# Altium footprint library Resistors_GP.PcbLib: 194 footprints (part 1 of 13)
Each footprint in its own frame and in the unit in brackets; x right, y up, seen from the top. Pads: shape width x height; smd on the part's side, far side on the other; paste and mask are expansions set on the pad; w line width, h text height; cw(c..) or ccw(c..) is an arc to the next point about the centre after c.
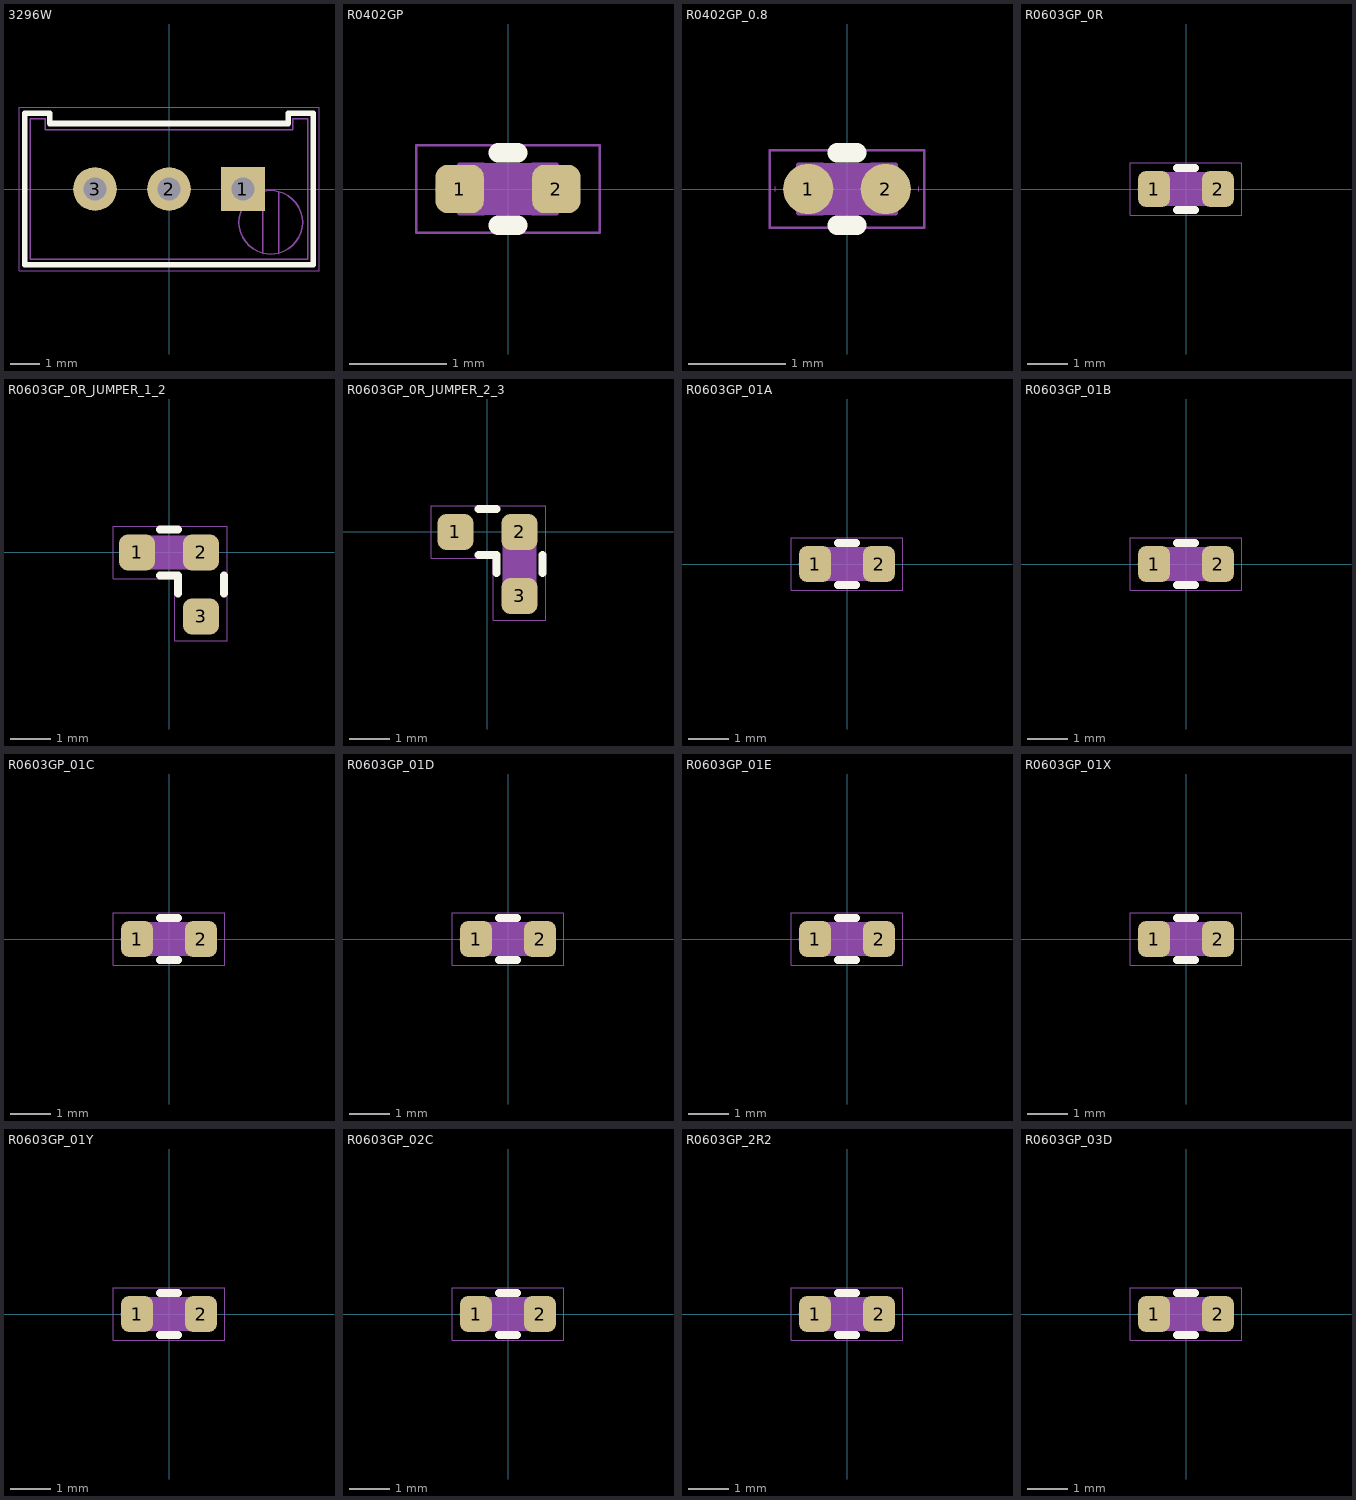
[diagram p0: the footprints below, top view; thin cyan lines are the x and y axes]

## 3296W [mm] "3/8 Trimming Potentiometer"
height 10.3
pads (3):
  rect 1.5x1.5 hole 0.8: 1(2.54,0)
  round 1.5 hole 0.8: 2(0,0) 3(-2.54,0)
Top Overlay:
  lines w0.2: -4.097,2.584 -4.097,2.25 4.097,2.25 4.097,2.584 ; -4.097,2.6 -4.95,2.6 -4.95,-2.6 4.95,-2.6 4.95,2.6 4.097,2.6
Top Courtyard:
  lines w0.025: -5.15,-2.8 5.15,-2.8 5.15,2.8 -5.15,2.8 -5.15,-2.8
Top Assembly:
  lines w0.05: 3.213,-2.199 cw(c3.492,-1.143) 3.213,-0.087 ; 3.213,-2.199 ccw(c3.492,-1.143) 3.492,-2.235 ccw(c3.492,-1.143) 3.772,-2.199 ; 3.213,-2.199 3.213,-0.087 ; 3.213,-0.087 cw(c3.492,-1.143) 3.492,-0.051 cw(c3.492,-1.143) 3.772,-0.087 ; 3.772,-2.199 ccw(c3.492,-1.143) 3.772,-0.087 ; 3.772,-2.199 3.772,-0.087 ; -4.763,-2.413 -4.763,2.413 -4.255,2.413 -4.255,2.032 4.255,2.032 4.255,2.413 4.763,2.413 4.763,-2.413 -4.763,-2.413
  text ".Designator" at -6.763,-0.679 h3
3D body "3296W_SHORTPINS.STEP": height 11.52, standoff -2.43, extent -4.763,-2.413 4.762,2.413

## R0402GP [mm] "SMD040210X05MM"
height 0.3
pads (2):
  rrect50% 0.5x0.5 smd mask+0.05: 1(-0.5,0) 2(0.5,0)
Top Overlay:
  lines w0.2: -0.1,-0.375 0.1,-0.375 ; -0.1,0.375 0.1,0.375
Top Courtyard:
  lines w0.025: -0.95,-0.45 -0.95,0.45 0.95,0.45 0.95,-0.45 -0.95,-0.45
Top Assembly:
  lines w0.01: -0.74,-0.025 -0.74,0.025 ; 0.74,-0.025 0.74,0.025
  lines w0.05: -0.298,-0.245 0.298,-0.245 ; -0.298,0.245 0.298,0.245 ; -0.2,-0.245 -0.2,0.245 ; -0.15,-0.245 -0.15,0.245 ; -0.1,-0.245 -0.1,0.245 ; -0.05,-0.245 -0.05,0.245 ; 0,-0.245 0,0.245 ; 0.05,-0.245 0.05,0.245 ; 0.1,-0.245 0.1,0.245 ; 0.15,-0.245 0.15,0.245 ; 0.2,-0.245 0.2,0.245 ; -0.3,-0.25 ccw(c-0.9,0) -0.3,0.25 ; -0.3,-0.25 -0.25,-0.25 -0.25,-0.245 -0.25,0.245 -0.25,0.25 -0.3,0.25 ; -0.3,-0.25 -0.5,-0.25 -0.5,0.25 -0.3,0.25 ; 0.3,-0.25 cw(c0.9,0) 0.3,0.25 ; 0.3,-0.25 0.25,-0.25 0.25,-0.245 0.25,0.245 0.25,0.25 0.3,0.25 ; 0.3,-0.25 0.5,-0.25 0.5,0.25 0.3,0.25
  text ".Designator" at -1.801,0.519 h0.8
3D body "R0402_BLACK.x_t": height 0.3, standoff 0, extent -0.5,-0.25 0.5,0.25

## R0402GP_0.8 [mm] "SMD040210X05MM for BGA with 0.8mm pitch"
height 0.3
pads (2):
  round 0.52 smd paste-0.025 mask+0.04: 1(-0.4,0) 2(0.4,0)
Top Overlay:
  lines w0.2: -0.1,-0.375 0.1,-0.375 ; -0.1,0.375 0.1,0.375
Top Courtyard:
  lines w0.025: -0.8,-0.4 -0.8,0.4 0.8,0.4 0.8,-0.4 -0.8,-0.4
Top Assembly:
  lines w0.01: -0.74,-0.025 -0.74,0.025 ; 0.74,-0.025 0.74,0.025
  lines w0.05: -0.298,-0.245 0.298,-0.245 ; -0.298,0.245 0.298,0.245 ; -0.2,-0.245 -0.2,0.245 ; -0.15,-0.245 -0.15,0.245 ; -0.1,-0.245 -0.1,0.245 ; -0.05,-0.245 -0.05,0.245 ; 0,-0.245 0,0.245 ; 0.05,-0.245 0.05,0.245 ; 0.1,-0.245 0.1,0.245 ; 0.15,-0.245 0.15,0.245 ; 0.2,-0.245 0.2,0.245 ; -0.3,-0.25 ccw(c-0.9,0) -0.3,0.25 ; -0.3,-0.25 -0.5,-0.25 -0.5,0.25 -0.3,0.25 ; -0.3,-0.25 -0.25,-0.25 -0.25,-0.245 -0.25,0.245 -0.25,0.25 -0.3,0.25 ; 0.3,-0.25 cw(c0.9,0) 0.3,0.25 ; 0.3,-0.25 0.5,-0.25 0.5,0.25 0.3,0.25 ; 0.3,-0.25 0.25,-0.25 0.25,-0.245 0.25,0.245 0.25,0.25 0.3,0.25
  text ".Designator" at -1.801,0.519 h0.8
3D body "R0402_BLACK.x_t": height 0.3, standoff 0, extent -0.5,-0.25 0.5,0.25

## R0603GP_0R [mm] "SMD060316X08MM"
height 0.45
pads (2):
  rrect50% 0.8x0.9 smd mask+0.05: 1(-0.8,0) 2(0.8,0)
Top Overlay:
  lines w0.2: -0.225,-0.525 0.225,-0.525 ; -0.225,0.525 0.225,0.525
Top Courtyard:
  lines w0.025: -1.4,-0.65 1.4,-0.65 1.4,0.65 -1.4,0.65 -1.4,-0.65
Top Assembly:
  lines w0.01: -1.19,-0.025 -1.19,0.025 ; 1.19,-0.025 1.19,0.025
  lines w0.05: -0.549,-0.395 0.549,-0.395 ; -0.549,0.395 0.549,0.395 ; -0.45,-0.395 -0.45,0.395 ; -0.4,-0.395 -0.4,0.395 ; -0.35,-0.395 -0.35,0.395 ; -0.3,-0.395 -0.3,0.395 ; -0.25,-0.395 -0.25,0.395 ; -0.2,-0.395 -0.2,0.395 ; -0.15,-0.395 -0.15,0.395 ; -0.1,-0.395 -0.1,0.395 ; -0.05,-0.395 -0.05,0.395 ; 0,-0.395 0,0.395 ; 0.05,-0.395 0.05,0.395 ; 0.1,-0.395 0.1,0.395 ; 0.15,-0.395 0.15,0.395 ; 0.2,-0.395 0.2,0.395 ; 0.25,-0.395 0.25,0.395 ; 0.3,-0.395 0.3,0.395 ; 0.35,-0.395 0.35,0.395 ; 0.4,-0.395 0.4,0.395 ; 0.45,-0.395 0.45,0.395 ; -0.55,-0.4 ccw(c-2.125,0) -0.55,0.4 ; -0.55,-0.4 -0.5,-0.4 -0.5,-0.395 -0.5,0.395 -0.5,0.4 -0.55,0.4 ; -0.55,-0.4 -0.8,-0.4 -0.8,0.4 -0.55,0.4 ; 0.55,-0.4 cw(c2.125,0) 0.55,0.4 ; 0.55,-0.4 0.5,-0.4 0.5,-0.395 0.5,0.395 0.5,0.4 0.55,0.4 ; 0.55,-0.4 0.8,-0.4 0.8,0.4 0.55,0.4
  text ".Designator" at -1.801,0.669 h0.8
3D body "R0603_BLACK_0R.x_t": height 0.45, standoff 0, extent -0.8,-0.4 0.8,0.4

## R0603GP_0R_JUMPER_1_2 [mm] "SMD060316X08MM"
height 0.45
pads (3):
  rrect50% 0.9x0.9 smd mask+0.05: 1(-0.8,0) 2(0.8,0) 3(0.8,-1.6)
Top Overlay:
  lines w0.2: -0.225,-0.575 0.225,-0.575 0.225,-1.025 ; -0.225,0.575 0.225,0.575 ; 1.375,-1.025 1.375,-0.575
Top Courtyard:
  lines w0.025: -1.4,-0.65 -1.4,0.65 1.45,0.65 1.45,-2.2 0.15,-2.2 0.15,-0.65 -1.4,-0.65
Top Assembly:
  lines w0.01: -1.19,-0.025 -1.19,0.025 ; 1.19,-0.025 1.19,0.025
  lines w0.05: -0.549,-0.395 0.549,-0.395 ; -0.549,0.395 0.549,0.395 ; -0.45,-0.395 -0.45,0.395 ; -0.4,-0.395 -0.4,0.395 ; -0.35,-0.395 -0.35,0.395 ; -0.3,-0.395 -0.3,0.395 ; -0.25,-0.395 -0.25,0.395 ; -0.2,-0.395 -0.2,0.395 ; -0.15,-0.395 -0.15,0.395 ; -0.1,-0.395 -0.1,0.395 ; -0.05,-0.395 -0.05,0.395 ; 0,-0.395 0,0.395 ; 0.05,-0.395 0.05,0.395 ; 0.1,-0.395 0.1,0.395 ; 0.15,-0.395 0.15,0.395 ; 0.2,-0.395 0.2,0.395 ; 0.25,-0.395 0.25,0.395 ; 0.3,-0.395 0.3,0.395 ; 0.35,-0.395 0.35,0.395 ; 0.4,-0.395 0.4,0.395 ; 0.45,-0.395 0.45,0.395 ; -0.55,-0.4 ccw(c-2.125,0) -0.55,0.4 ; -0.55,-0.4 -0.8,-0.4 -0.8,0.4 -0.55,0.4 ; -0.55,-0.4 -0.5,-0.4 -0.5,-0.395 -0.5,0.395 -0.5,0.4 -0.55,0.4 ; 0.55,-0.4 cw(c2.125,0) 0.55,0.4 ; 0.55,-0.4 0.8,-0.4 0.8,0.4 0.55,0.4 ; 0.55,-0.4 0.5,-0.4 0.5,-0.395 0.5,0.395 0.5,0.4 0.55,0.4
  text ".Designator" at -1.801,0.669 h0.8
3D body "R0603_BLACK_0R.x_t": height 0.45, standoff 0, extent -0.8,-0.4 0.8,0.4

## R0603GP_0R_JUMPER_2_3 [mm] "SMD060316X08MM"
height 0.45
pads (3):
  rrect50% 0.9x0.9 smd mask+0.05: 1(-0.8,0) 2(0.8,0) 3(0.8,-1.6)
Top Overlay:
  lines w0.2: -0.225,-0.575 0.225,-0.575 0.225,-1.025 ; -0.225,0.575 0.225,0.575 ; 1.375,-1.025 1.375,-0.575
Top Courtyard:
  lines w0.025: -1.4,-0.65 -1.4,0.65 1.45,0.65 1.45,-2.2 0.15,-2.2 0.15,-0.65 -1.4,-0.65
Top Assembly:
  lines w0.01: 0.775,-1.99 0.825,-1.99 ; 0.775,0.39 0.825,0.39
  lines w0.05: 0.405,-1.349 0.405,-0.251 ; 0.405,-1.25 1.195,-1.25 ; 0.405,-1.2 1.195,-1.2 ; 0.405,-1.15 1.195,-1.15 ; 0.405,-1.1 1.195,-1.1 ; 0.405,-1.05 1.195,-1.05 ; 0.405,-1 1.195,-1 ; 0.405,-0.95 1.195,-0.95 ; 0.405,-0.9 1.195,-0.9 ; 0.405,-0.85 1.195,-0.85 ; 0.405,-0.8 1.195,-0.8 ; 0.405,-0.75 1.195,-0.75 ; 0.405,-0.7 1.195,-0.7 ; 0.405,-0.65 1.195,-0.65 ; 0.405,-0.6 1.195,-0.6 ; 0.405,-0.55 1.195,-0.55 ; 0.405,-0.5 1.195,-0.5 ; 0.405,-0.45 1.195,-0.45 ; 0.405,-0.4 1.195,-0.4 ; 0.405,-0.35 1.195,-0.35 ; 1.195,-1.349 1.195,-0.251 ; 0.4,-1.35 cw(c0.8,-2.925) 1.2,-1.35 ; 0.4,-1.35 0.4,-1.6 1.2,-1.6 1.2,-1.35 ; 0.4,-1.35 0.4,-1.3 0.405,-1.3 1.195,-1.3 1.2,-1.3 1.2,-1.35 ; 0.4,-0.25 ccw(c0.8,1.325) 1.2,-0.25 ; 0.4,-0.25 0.4,0 1.2,0 1.2,-0.25 ; 0.4,-0.25 0.4,-0.3 0.405,-0.3 1.195,-0.3 1.2,-0.3 1.2,-0.25
  text ".Designator" at -1.801,0.669 h0.8
3D body "R0603_BLACK_0R.x_t": height 0.45, standoff 0, extent 0.4,-1.6 1.2,0

## R0603GP_01A [mm] "SMD060316X08MM"
height 0.45
pads (2):
  rrect50% 0.8x0.9 smd mask+0.05: 1(-0.8,0) 2(0.8,0)
Top Overlay:
  lines w0.2: -0.225,-0.525 0.225,-0.525 ; -0.225,0.525 0.225,0.525
Top Courtyard:
  lines w0.025: -1.4,-0.65 -1.4,0.65 1.4,0.65 1.4,-0.65 -1.4,-0.65
Top Assembly:
  lines w0.01: -1.19,-0.025 -1.19,0.025 ; 1.19,-0.025 1.19,0.025
  lines w0.05: -0.549,-0.395 0.549,-0.395 ; -0.549,0.395 0.549,0.395 ; -0.45,-0.395 -0.45,0.395 ; -0.4,-0.395 -0.4,0.395 ; -0.35,-0.395 -0.35,0.395 ; -0.3,-0.395 -0.3,0.395 ; -0.25,-0.395 -0.25,0.395 ; -0.2,-0.395 -0.2,0.395 ; -0.15,-0.395 -0.15,0.395 ; -0.1,-0.395 -0.1,0.395 ; -0.05,-0.395 -0.05,0.395 ; 0,-0.395 0,0.395 ; 0.05,-0.395 0.05,0.395 ; 0.1,-0.395 0.1,0.395 ; 0.15,-0.395 0.15,0.395 ; 0.2,-0.395 0.2,0.395 ; 0.25,-0.395 0.25,0.395 ; 0.3,-0.395 0.3,0.395 ; 0.35,-0.395 0.35,0.395 ; 0.4,-0.395 0.4,0.395 ; 0.45,-0.395 0.45,0.395 ; -0.55,-0.4 ccw(c-2.125,0) -0.55,0.4 ; -0.55,-0.4 -0.5,-0.4 -0.5,-0.395 -0.5,0.395 -0.5,0.4 -0.55,0.4 ; -0.55,-0.4 -0.8,-0.4 -0.8,0.4 -0.55,0.4 ; 0.55,-0.4 cw(c2.125,0) 0.55,0.4 ; 0.55,-0.4 0.5,-0.4 0.5,-0.395 0.5,0.395 0.5,0.4 0.55,0.4 ; 0.55,-0.4 0.8,-0.4 0.8,0.4 0.55,0.4
  text ".Designator" at -1.801,0.669 h0.8
3D body "R0603_BLACK_01A.x_t": height 0.45, standoff 0, extent -0.8,-0.4 0.8,0.4

## R0603GP_01B [mm] "SMD060316X08MM"
height 0.45
pads (2):
  rrect50% 0.8x0.9 smd mask+0.05: 1(-0.8,0) 2(0.8,0)
Top Overlay:
  lines w0.2: -0.225,-0.525 0.225,-0.525 ; -0.225,0.525 0.225,0.525
Top Courtyard:
  lines w0.025: -1.4,-0.65 1.4,-0.65 1.4,0.65 -1.4,0.65 -1.4,-0.65
Top Assembly:
  lines w0.01: -1.19,-0.025 -1.19,0.025 ; 1.19,-0.025 1.19,0.025
  lines w0.05: -0.549,-0.395 0.549,-0.395 ; -0.549,0.395 0.549,0.395 ; -0.45,-0.395 -0.45,0.395 ; -0.4,-0.395 -0.4,0.395 ; -0.35,-0.395 -0.35,0.395 ; -0.3,-0.395 -0.3,0.395 ; -0.25,-0.395 -0.25,0.395 ; -0.2,-0.395 -0.2,0.395 ; -0.15,-0.395 -0.15,0.395 ; -0.1,-0.395 -0.1,0.395 ; -0.05,-0.395 -0.05,0.395 ; 0,-0.395 0,0.395 ; 0.05,-0.395 0.05,0.395 ; 0.1,-0.395 0.1,0.395 ; 0.15,-0.395 0.15,0.395 ; 0.2,-0.395 0.2,0.395 ; 0.25,-0.395 0.25,0.395 ; 0.3,-0.395 0.3,0.395 ; 0.35,-0.395 0.35,0.395 ; 0.4,-0.395 0.4,0.395 ; 0.45,-0.395 0.45,0.395 ; -0.55,-0.4 ccw(c-2.125,0) -0.55,0.4 ; -0.55,-0.4 -0.8,-0.4 -0.8,0.4 -0.55,0.4 ; -0.55,-0.4 -0.5,-0.4 -0.5,-0.395 -0.5,0.395 -0.5,0.4 -0.55,0.4 ; 0.55,-0.4 cw(c2.125,0) 0.55,0.4 ; 0.55,-0.4 0.8,-0.4 0.8,0.4 0.55,0.4 ; 0.55,-0.4 0.5,-0.4 0.5,-0.395 0.5,0.395 0.5,0.4 0.55,0.4
  text ".Designator" at -1.801,0.669 h0.8
3D body "R0603_BLACK_01B.x_t": height 0.45, standoff 0, extent -0.8,-0.4 0.8,0.4

## R0603GP_01C [mm] "SMD060316X08MM"
height 0.45
pads (2):
  rrect50% 0.8x0.9 smd mask+0.05: 1(-0.8,0) 2(0.8,0)
Top Overlay:
  lines w0.2: -0.225,-0.525 0.225,-0.525 ; -0.225,0.525 0.225,0.525
Top Courtyard:
  lines w0.025: -1.4,-0.65 -1.4,0.65 1.4,0.65 1.4,-0.65 -1.4,-0.65
Top Assembly:
  lines w0.01: -1.19,-0.025 -1.19,0.025 ; 1.19,-0.025 1.19,0.025
  lines w0.05: -0.549,-0.395 0.549,-0.395 ; -0.549,0.395 0.549,0.395 ; -0.45,-0.395 -0.45,0.395 ; -0.4,-0.395 -0.4,0.395 ; -0.35,-0.395 -0.35,0.395 ; -0.3,-0.395 -0.3,0.395 ; -0.25,-0.395 -0.25,0.395 ; -0.2,-0.395 -0.2,0.395 ; -0.15,-0.395 -0.15,0.395 ; -0.1,-0.395 -0.1,0.395 ; -0.05,-0.395 -0.05,0.395 ; 0,-0.395 0,0.395 ; 0.05,-0.395 0.05,0.395 ; 0.1,-0.395 0.1,0.395 ; 0.15,-0.395 0.15,0.395 ; 0.2,-0.395 0.2,0.395 ; 0.25,-0.395 0.25,0.395 ; 0.3,-0.395 0.3,0.395 ; 0.35,-0.395 0.35,0.395 ; 0.4,-0.395 0.4,0.395 ; 0.45,-0.395 0.45,0.395 ; -0.55,-0.4 ccw(c-2.125,0) -0.55,0.4 ; -0.55,-0.4 -0.8,-0.4 -0.8,0.4 -0.55,0.4 ; -0.55,-0.4 -0.5,-0.4 -0.5,-0.395 -0.5,0.395 -0.5,0.4 -0.55,0.4 ; 0.55,-0.4 cw(c2.125,0) 0.55,0.4 ; 0.55,-0.4 0.8,-0.4 0.8,0.4 0.55,0.4 ; 0.55,-0.4 0.5,-0.4 0.5,-0.395 0.5,0.395 0.5,0.4 0.55,0.4
  text ".Designator" at -1.801,0.669 h0.8
3D body "R0603_BLACK_01C.x_t": height 0.45, standoff 0, extent -0.8,-0.4 0.8,0.4

## R0603GP_01D [mm] "SMD060316X08MM"
height 0.45
pads (2):
  rrect50% 0.8x0.9 smd mask+0.05: 1(-0.8,0) 2(0.8,0)
Top Overlay:
  lines w0.2: -0.225,-0.525 0.225,-0.525 ; -0.225,0.525 0.225,0.525
Top Courtyard:
  lines w0.025: -1.4,-0.65 -1.4,0.65 1.4,0.65 1.4,-0.65 -1.4,-0.65
Top Assembly:
  lines w0.01: -1.19,-0.025 -1.19,0.025 ; 1.19,-0.025 1.19,0.025
  lines w0.05: -0.549,-0.395 0.549,-0.395 ; -0.549,0.395 0.549,0.395 ; -0.45,-0.395 -0.45,0.395 ; -0.4,-0.395 -0.4,0.395 ; -0.35,-0.395 -0.35,0.395 ; -0.3,-0.395 -0.3,0.395 ; -0.25,-0.395 -0.25,0.395 ; -0.2,-0.395 -0.2,0.395 ; -0.15,-0.395 -0.15,0.395 ; -0.1,-0.395 -0.1,0.395 ; -0.05,-0.395 -0.05,0.395 ; 0,-0.395 0,0.395 ; 0.05,-0.395 0.05,0.395 ; 0.1,-0.395 0.1,0.395 ; 0.15,-0.395 0.15,0.395 ; 0.2,-0.395 0.2,0.395 ; 0.25,-0.395 0.25,0.395 ; 0.3,-0.395 0.3,0.395 ; 0.35,-0.395 0.35,0.395 ; 0.4,-0.395 0.4,0.395 ; 0.45,-0.395 0.45,0.395 ; -0.55,-0.4 ccw(c-2.125,0) -0.55,0.4 ; -0.55,-0.4 -0.5,-0.4 -0.5,-0.395 -0.5,0.395 -0.5,0.4 -0.55,0.4 ; -0.55,-0.4 -0.8,-0.4 -0.8,0.4 -0.55,0.4 ; 0.55,-0.4 cw(c2.125,0) 0.55,0.4 ; 0.55,-0.4 0.5,-0.4 0.5,-0.395 0.5,0.395 0.5,0.4 0.55,0.4 ; 0.55,-0.4 0.8,-0.4 0.8,0.4 0.55,0.4
  text ".Designator" at -1.801,0.669 h0.8
3D body "R0603_BLACK_01D.x_t": height 0.45, standoff 0, extent -0.8,-0.4 0.8,0.4

## R0603GP_01E [mm] "SMD060316X08MM"
height 0.45
pads (2):
  rrect50% 0.8x0.9 smd mask+0.05: 1(-0.8,0) 2(0.8,0)
Top Overlay:
  lines w0.2: -0.225,-0.525 0.225,-0.525 ; -0.225,0.525 0.225,0.525
Top Courtyard:
  lines w0.025: -1.4,-0.65 1.4,-0.65 1.4,0.65 -1.4,0.65 -1.4,-0.65
Top Assembly:
  lines w0.01: -1.19,-0.025 -1.19,0.025 ; 1.19,-0.025 1.19,0.025
  lines w0.05: -0.549,-0.395 0.549,-0.395 ; -0.549,0.395 0.549,0.395 ; -0.45,-0.395 -0.45,0.395 ; -0.4,-0.395 -0.4,0.395 ; -0.35,-0.395 -0.35,0.395 ; -0.3,-0.395 -0.3,0.395 ; -0.25,-0.395 -0.25,0.395 ; -0.2,-0.395 -0.2,0.395 ; -0.15,-0.395 -0.15,0.395 ; -0.1,-0.395 -0.1,0.395 ; -0.05,-0.395 -0.05,0.395 ; 0,-0.395 0,0.395 ; 0.05,-0.395 0.05,0.395 ; 0.1,-0.395 0.1,0.395 ; 0.15,-0.395 0.15,0.395 ; 0.2,-0.395 0.2,0.395 ; 0.25,-0.395 0.25,0.395 ; 0.3,-0.395 0.3,0.395 ; 0.35,-0.395 0.35,0.395 ; 0.4,-0.395 0.4,0.395 ; 0.45,-0.395 0.45,0.395 ; -0.55,-0.4 ccw(c-2.125,0) -0.55,0.4 ; -0.55,-0.4 -0.8,-0.4 -0.8,0.4 -0.55,0.4 ; -0.55,-0.4 -0.5,-0.4 -0.5,-0.395 -0.5,0.395 -0.5,0.4 -0.55,0.4 ; 0.55,-0.4 cw(c2.125,0) 0.55,0.4 ; 0.55,-0.4 0.8,-0.4 0.8,0.4 0.55,0.4 ; 0.55,-0.4 0.5,-0.4 0.5,-0.395 0.5,0.395 0.5,0.4 0.55,0.4
  text ".Designator" at -1.801,0.669 h0.8
3D body "R0603_BLACK_01E.x_t": height 0.45, standoff 0, extent -0.8,-0.4 0.8,0.4

## R0603GP_01X [mm] "SMD060316X08MM"
height 0.45
pads (2):
  rrect50% 0.8x0.9 smd mask+0.05: 1(-0.8,0) 2(0.8,0)
Top Overlay:
  lines w0.2: -0.225,-0.525 0.225,-0.525 ; -0.225,0.525 0.225,0.525
Top Courtyard:
  lines w0.025: -1.4,-0.65 -1.4,0.65 1.4,0.65 1.4,-0.65 -1.4,-0.65
Top Assembly:
  lines w0.01: -1.19,-0.025 -1.19,0.025 ; 1.19,-0.025 1.19,0.025
  lines w0.05: -0.549,-0.395 0.549,-0.395 ; -0.549,0.395 0.549,0.395 ; -0.45,-0.395 -0.45,0.395 ; -0.4,-0.395 -0.4,0.395 ; -0.35,-0.395 -0.35,0.395 ; -0.3,-0.395 -0.3,0.395 ; -0.25,-0.395 -0.25,0.395 ; -0.2,-0.395 -0.2,0.395 ; -0.15,-0.395 -0.15,0.395 ; -0.1,-0.395 -0.1,0.395 ; -0.05,-0.395 -0.05,0.395 ; 0,-0.395 0,0.395 ; 0.05,-0.395 0.05,0.395 ; 0.1,-0.395 0.1,0.395 ; 0.15,-0.395 0.15,0.395 ; 0.2,-0.395 0.2,0.395 ; 0.25,-0.395 0.25,0.395 ; 0.3,-0.395 0.3,0.395 ; 0.35,-0.395 0.35,0.395 ; 0.4,-0.395 0.4,0.395 ; 0.45,-0.395 0.45,0.395 ; -0.55,-0.4 ccw(c-2.125,0) -0.55,0.4 ; -0.55,-0.4 -0.5,-0.4 -0.5,-0.395 -0.5,0.395 -0.5,0.4 -0.55,0.4 ; -0.55,-0.4 -0.8,-0.4 -0.8,0.4 -0.55,0.4 ; 0.55,-0.4 cw(c2.125,0) 0.55,0.4 ; 0.55,-0.4 0.5,-0.4 0.5,-0.395 0.5,0.395 0.5,0.4 0.55,0.4 ; 0.55,-0.4 0.8,-0.4 0.8,0.4 0.55,0.4
  text ".Designator" at -1.801,0.669 h0.8
3D body "R0603_BLACK_01X.x_t": height 0.45, standoff 0, extent -0.8,-0.4 0.8,0.4

## R0603GP_01Y [mm] "SMD060316X08MM"
height 0.45
pads (2):
  rrect50% 0.8x0.9 smd mask+0.05: 1(-0.8,0) 2(0.8,0)
Top Overlay:
  lines w0.2: -0.225,-0.525 0.225,-0.525 ; -0.225,0.525 0.225,0.525
Top Courtyard:
  lines w0.025: -1.4,-0.65 -1.4,0.65 1.4,0.65 1.4,-0.65 -1.4,-0.65
Top Assembly:
  lines w0.01: -1.19,-0.025 -1.19,0.025 ; 1.19,-0.025 1.19,0.025
  lines w0.05: -0.549,-0.395 0.549,-0.395 ; -0.549,0.395 0.549,0.395 ; -0.45,-0.395 -0.45,0.395 ; -0.4,-0.395 -0.4,0.395 ; -0.35,-0.395 -0.35,0.395 ; -0.3,-0.395 -0.3,0.395 ; -0.25,-0.395 -0.25,0.395 ; -0.2,-0.395 -0.2,0.395 ; -0.15,-0.395 -0.15,0.395 ; -0.1,-0.395 -0.1,0.395 ; -0.05,-0.395 -0.05,0.395 ; 0,-0.395 0,0.395 ; 0.05,-0.395 0.05,0.395 ; 0.1,-0.395 0.1,0.395 ; 0.15,-0.395 0.15,0.395 ; 0.2,-0.395 0.2,0.395 ; 0.25,-0.395 0.25,0.395 ; 0.3,-0.395 0.3,0.395 ; 0.35,-0.395 0.35,0.395 ; 0.4,-0.395 0.4,0.395 ; 0.45,-0.395 0.45,0.395 ; -0.55,-0.4 ccw(c-2.125,0) -0.55,0.4 ; -0.55,-0.4 -0.8,-0.4 -0.8,0.4 -0.55,0.4 ; -0.55,-0.4 -0.5,-0.4 -0.5,-0.395 -0.5,0.395 -0.5,0.4 -0.55,0.4 ; 0.55,-0.4 cw(c2.125,0) 0.55,0.4 ; 0.55,-0.4 0.8,-0.4 0.8,0.4 0.55,0.4 ; 0.55,-0.4 0.5,-0.4 0.5,-0.395 0.5,0.395 0.5,0.4 0.55,0.4
  text ".Designator" at -1.801,0.669 h0.8
3D body "R0603_BLACK_01Y.x_t": height 0.45, standoff 0, extent -0.8,-0.4 0.8,0.4

## R0603GP_02C [mm] "SMD060316X08MM"
height 0.45
pads (2):
  rrect50% 0.8x0.9 smd mask+0.05: 1(-0.8,0) 2(0.8,0)
Top Overlay:
  lines w0.2: -0.225,-0.525 0.225,-0.525 ; -0.225,0.525 0.225,0.525
Top Courtyard:
  lines w0.025: -1.4,-0.65 -1.4,0.65 1.4,0.65 1.4,-0.65 -1.4,-0.65
Top Assembly:
  lines w0.01: -1.19,-0.025 -1.19,0.025 ; 1.19,-0.025 1.19,0.025
  lines w0.05: -0.549,-0.395 0.549,-0.395 ; -0.549,0.395 0.549,0.395 ; -0.45,-0.395 -0.45,0.395 ; -0.4,-0.395 -0.4,0.395 ; -0.35,-0.395 -0.35,0.395 ; -0.3,-0.395 -0.3,0.395 ; -0.25,-0.395 -0.25,0.395 ; -0.2,-0.395 -0.2,0.395 ; -0.15,-0.395 -0.15,0.395 ; -0.1,-0.395 -0.1,0.395 ; -0.05,-0.395 -0.05,0.395 ; 0,-0.395 0,0.395 ; 0.05,-0.395 0.05,0.395 ; 0.1,-0.395 0.1,0.395 ; 0.15,-0.395 0.15,0.395 ; 0.2,-0.395 0.2,0.395 ; 0.25,-0.395 0.25,0.395 ; 0.3,-0.395 0.3,0.395 ; 0.35,-0.395 0.35,0.395 ; 0.4,-0.395 0.4,0.395 ; 0.45,-0.395 0.45,0.395 ; -0.55,-0.4 ccw(c-2.125,0) -0.55,0.4 ; -0.55,-0.4 -0.5,-0.4 -0.5,-0.395 -0.5,0.395 -0.5,0.4 -0.55,0.4 ; -0.55,-0.4 -0.8,-0.4 -0.8,0.4 -0.55,0.4 ; 0.55,-0.4 cw(c2.125,0) 0.55,0.4 ; 0.55,-0.4 0.5,-0.4 0.5,-0.395 0.5,0.395 0.5,0.4 0.55,0.4 ; 0.55,-0.4 0.8,-0.4 0.8,0.4 0.55,0.4
  text ".Designator" at -1.801,0.669 h0.8
3D body "R0603_BLACK_02C.x_t": height 0.45, standoff 0, extent -0.8,-0.4 0.8,0.4

## R0603GP_2R2 [mm] "SMD060316X08MM"
height 0.45
pads (2):
  rrect50% 0.8x0.9 smd mask+0.05: 1(-0.8,0) 2(0.8,0)
Top Overlay:
  lines w0.2: -0.225,-0.525 0.225,-0.525 ; -0.225,0.525 0.225,0.525
Top Courtyard:
  lines w0.025: -1.4,-0.65 1.4,-0.65 1.4,0.65 -1.4,0.65 -1.4,-0.65
Top Assembly:
  lines w0.01: -1.19,-0.025 -1.19,0.025 ; 1.19,-0.025 1.19,0.025
  lines w0.05: -0.549,-0.395 0.549,-0.395 ; -0.549,0.395 0.549,0.395 ; -0.45,-0.395 -0.45,0.395 ; -0.4,-0.395 -0.4,0.395 ; -0.35,-0.395 -0.35,0.395 ; -0.3,-0.395 -0.3,0.395 ; -0.25,-0.395 -0.25,0.395 ; -0.2,-0.395 -0.2,0.395 ; -0.15,-0.395 -0.15,0.395 ; -0.1,-0.395 -0.1,0.395 ; -0.05,-0.395 -0.05,0.395 ; 0,-0.395 0,0.395 ; 0.05,-0.395 0.05,0.395 ; 0.1,-0.395 0.1,0.395 ; 0.15,-0.395 0.15,0.395 ; 0.2,-0.395 0.2,0.395 ; 0.25,-0.395 0.25,0.395 ; 0.3,-0.395 0.3,0.395 ; 0.35,-0.395 0.35,0.395 ; 0.4,-0.395 0.4,0.395 ; 0.45,-0.395 0.45,0.395 ; -0.55,-0.4 ccw(c-2.125,0) -0.55,0.4 ; -0.55,-0.4 -0.5,-0.4 -0.5,-0.395 -0.5,0.395 -0.5,0.4 -0.55,0.4 ; -0.55,-0.4 -0.8,-0.4 -0.8,0.4 -0.55,0.4 ; 0.55,-0.4 cw(c2.125,0) 0.55,0.4 ; 0.55,-0.4 0.5,-0.4 0.5,-0.395 0.5,0.395 0.5,0.4 0.55,0.4 ; 0.55,-0.4 0.8,-0.4 0.8,0.4 0.55,0.4
  text ".Designator" at -1.801,0.669 h0.8
3D body "R0603_BLACK_2R2.x_t": height 0.45, standoff 0, extent -0.8,-0.4 0.8,0.4

## R0603GP_03D [mm] "SMD060316X08MM"
height 0.45
pads (2):
  rrect50% 0.8x0.9 smd mask+0.05: 1(-0.8,0) 2(0.8,0)
Top Overlay:
  lines w0.2: -0.225,-0.525 0.225,-0.525 ; -0.225,0.525 0.225,0.525
Top Courtyard:
  lines w0.025: -1.4,-0.65 1.4,-0.65 1.4,0.65 -1.4,0.65 -1.4,-0.65
Top Assembly:
  lines w0.01: -1.19,-0.025 -1.19,0.025 ; 1.19,-0.025 1.19,0.025
  lines w0.05: -0.549,-0.395 0.549,-0.395 ; -0.549,0.395 0.549,0.395 ; -0.45,-0.395 -0.45,0.395 ; -0.4,-0.395 -0.4,0.395 ; -0.35,-0.395 -0.35,0.395 ; -0.3,-0.395 -0.3,0.395 ; -0.25,-0.395 -0.25,0.395 ; -0.2,-0.395 -0.2,0.395 ; -0.15,-0.395 -0.15,0.395 ; -0.1,-0.395 -0.1,0.395 ; -0.05,-0.395 -0.05,0.395 ; 0,-0.395 0,0.395 ; 0.05,-0.395 0.05,0.395 ; 0.1,-0.395 0.1,0.395 ; 0.15,-0.395 0.15,0.395 ; 0.2,-0.395 0.2,0.395 ; 0.25,-0.395 0.25,0.395 ; 0.3,-0.395 0.3,0.395 ; 0.35,-0.395 0.35,0.395 ; 0.4,-0.395 0.4,0.395 ; 0.45,-0.395 0.45,0.395 ; -0.55,-0.4 ccw(c-2.125,0) -0.55,0.4 ; -0.55,-0.4 -0.5,-0.4 -0.5,-0.395 -0.5,0.395 -0.5,0.4 -0.55,0.4 ; -0.55,-0.4 -0.8,-0.4 -0.8,0.4 -0.55,0.4 ; 0.55,-0.4 cw(c2.125,0) 0.55,0.4 ; 0.55,-0.4 0.5,-0.4 0.5,-0.395 0.5,0.395 0.5,0.4 0.55,0.4 ; 0.55,-0.4 0.8,-0.4 0.8,0.4 0.55,0.4
  text ".Designator" at -1.801,0.669 h0.8
3D body "R0603_BLACK_03D.x_t": height 0.45, standoff 0, extent -0.8,-0.4 0.8,0.4